# EAGLE library part TCA9543A (library PowerComponents)
2 port I2C mux
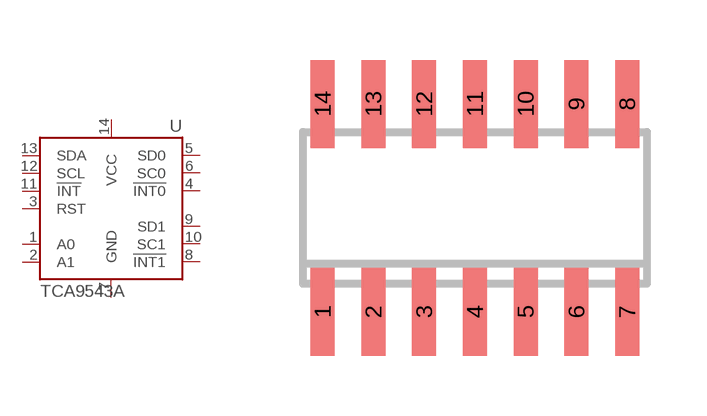
[diagram p2: symbol with the pads of SO-14; footprint SO-14]

Designator prefix U

## TCA9543A  [SO-14]
1  A0
2  A1
3  RST
4  !INT0!
5  SD0
6  SC0
7  GND
8  !INT1!
9  SD1
10  SC1
11  !INT!
12  SCL
13  SDA
14  VCC

## Footprint SO-14 (pad centres in mm)
Small Outline Narrow Plastic Gull Wing 150-mil body, package type SL
smd 0.6 x 2.2: 1 -3.81,-2.6; 2 -2.54,-2.6; 3 -1.27,-2.6; 4 0,-2.6; 5 1.27,-2.6; 6 2.54,-2.6; 7 3.81,-2.6; 8 3.81,2.6; 9 2.54,2.6; 10 1.27,2.6; 11 0,2.6; 12 -1.27,2.6; 13 -2.54,2.6; 14 -3.81,2.6